# Altium schematic symbol library ushio_rp2040.SchLib: 44 symbols (part 1 of 2)
Pins are listed as number, name and electrical type; pins without a type are passive.

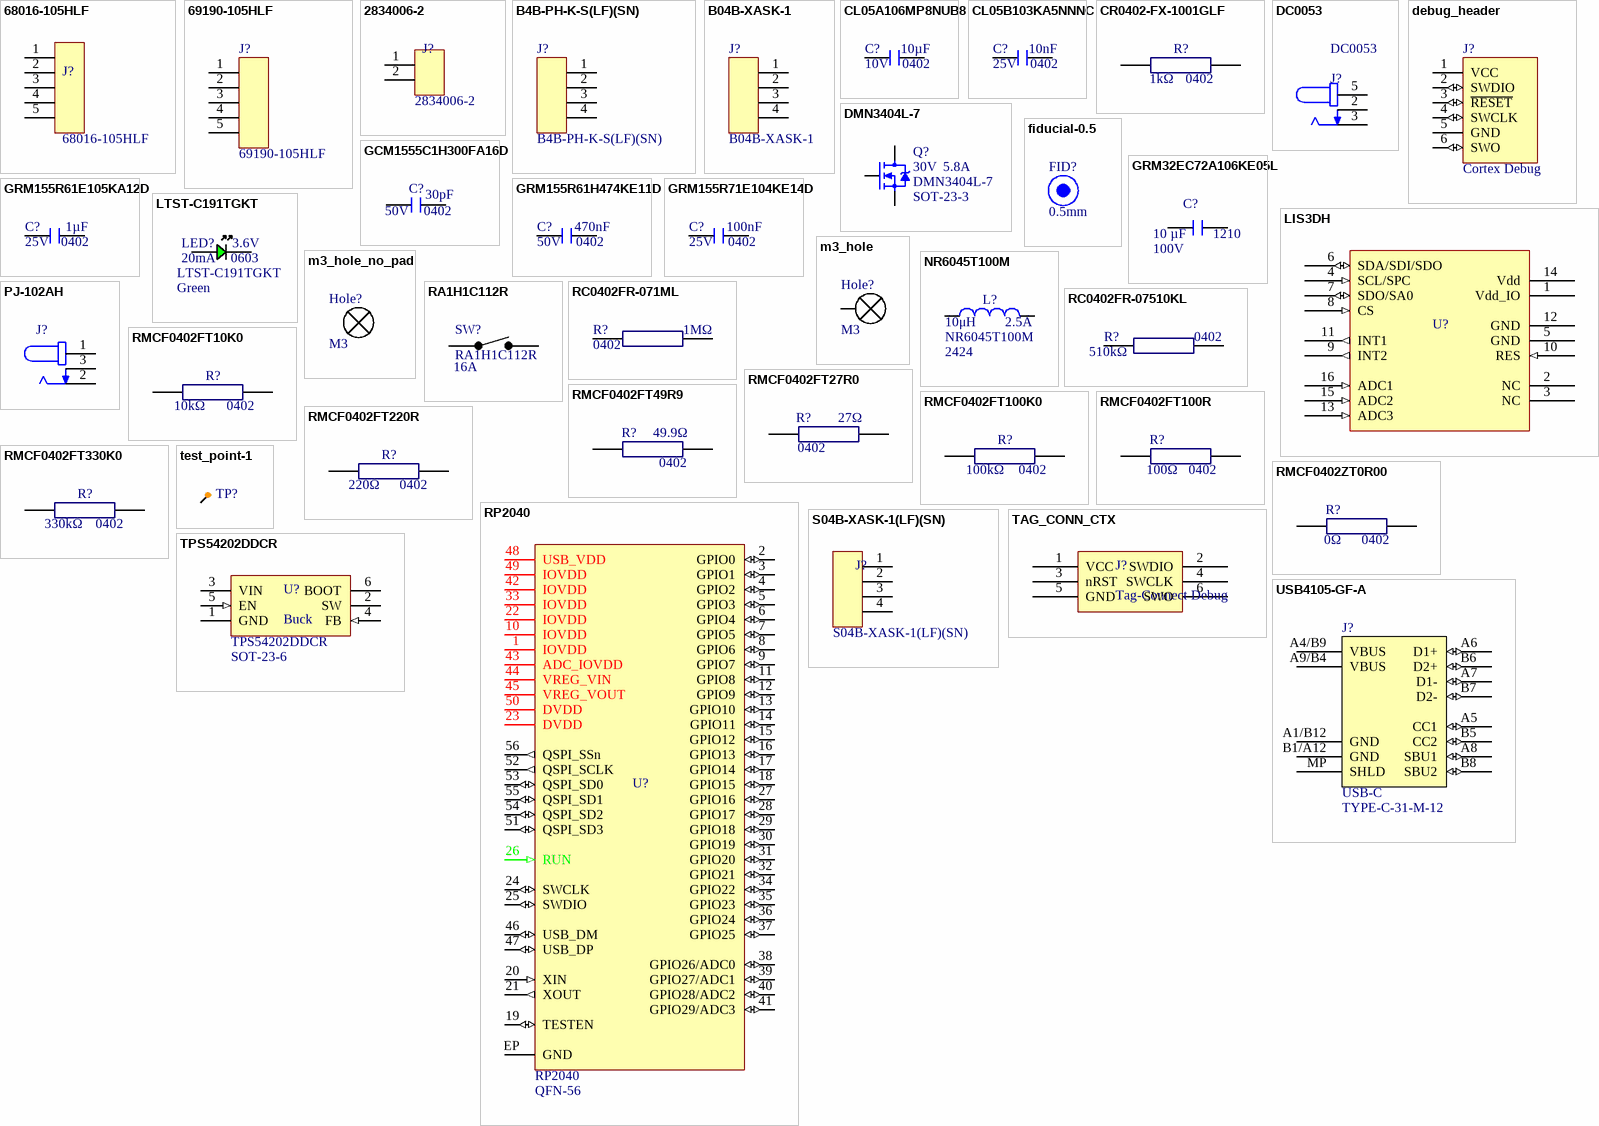
[diagram p0: symbols 68016-105HLF to USB4105-GF-A]

## 68016-105HLF
designator J?  Manufacturer Part Number: 68016-105HLF  (hidden comment: *)
Right Angle 5 position header, unshrouded, 0.100" (2.54mm); Manufacturer: Amphenol ICC / FCI; Description: Connector Header Through Hole, Right Angle 5 position 0.100" (2.54mm); Number of Positions: 5; Current Rating: 3A; Insulation Resistance: 5GR; Voltage Rating: 1.5kV; Contact Post Length: 3.05mm; Supplier: Avnet; Supplier Part Number: 51Y8065; RoHS: No; Category: Connectors; Stock: 1974; Pricing: 1=0.518, 10=0.438, 25=0.418, 50=0.399, 100=0.38 (USD); Mounting Technology: Through Hole; Contact Plating: Gold,GXT; Contact Material: Bronze; Color: Black; Housing Material: Thermoplastic; Housing Color: Black; Min Operating Temperature: -65°C; Max Operating Temperature: 125°C; Number of Rows: 1; Termination: Solder; Contact Gender: Male; Series: BERGSTIK® II, MezzSelect™, Basics+; Packaging: Bulk; Package Quantity: 100; Contact Type: Male Pin; Number of Contacts: 5; Orientation: Right Angle; Max Voltage Rating (AC): 1.5kV; Length: 12.7mm; Pitch: 2.54mm; Contact Mating Length: 0.23inch; Depth: 9.9mm; Radiation Hardening: No; Flammability Rating: UL94 V-0; ComponentLink1URL: http://portal.fciconnect.com/Comergent/fci/drawing/68015.pdf?src-supplier=Avnet; ComponentLink1Description: http://portal.fciconnect.com/Comergent/fci/drawing/68015.pdf?src-supplier=Avnet; ComponentLink2URL: http://components.arrow.com/part/dataview/41914664S9531290N8314?src-supplier=Arrow+Electronics; ComponentLink2Description: http://components.arrow.com/part/dataview/41914664S9531290N8314?src-supplier=Arrow+Electronics; ComponentLink3URL: http://portal.fciconnect.com/Comergent//fci/drawing/68015.pdf?src-supplier=Digi-Key; ComponentLink3Description: http://portal.fciconnect.com/Comergent//fci/drawing/68015.pdf?src-supplier=Digi-Key; ComponentLink4URL: http://www.mouser.com/ds/2/154/bus-12-050-356030.pdf?src-supplier=Mouser; ComponentLink4Description: http://www.mouser.com/ds/2/154/bus-12-050-356030.pdf?src-supplier=Mouser
footprint 68016-105HLF (5-pin 0.1" header, right angle)
pins: 1, 2, 3, 4, 5

## 69190-105HLF
designator J?  Manufacturer Part Number: 69190-105HLF  (hidden comment: *)
5-pin 0.1" unshrouded header pins; Manufacturer: Amphenol ICC / FCI; Manufacturer Series: 69190; Connector Type: BOARD CONNECTOR; Option: General Purpose; Contact Pattern: RECTANGULAR; Contact Style: SQ PIN-SKT; Filter Feature: No; Number Of Connectors: 1; Number of Contacts: 5; Body Breadth: 0.095inch; Body Depth: 0.1inch; Body Length: 0.5inch; Mounting Option 1: LOCKING; Plating Thickness: 30uin; Reference Standard: UL; Reliability: COMMERCIAL; Supplier 1: Digi-Key; RoHS: Yes; Category: Connectors; Stock 1: 3670; Pricing 1: 1=0.47, 10=0.402, 100=0.3123, 500=0.26768, 1000=0.22306, 5000=0.19119, 10000=0.17845 (USD); Mounting Technology: Board; Contact Material: Bronze; Contact Finish - Termination: GOLD (30) OVER NICKEL/NICKEL PALLADIUM GOLD (30) OVER NICKEL; Insulation Color: Black; JESD-609 Code: e4; Contact Gender: Male; Mixed Contacts: No; Mounting Style: STRAIGHT; Number Of PCB Rows: 1; Number of Rows Loaded: 1; PCB Contact Pattern: RECTANGULAR; Termination: Solder; Mating Contact Pitch: 0.1inch; Terminal Length: 0.12inch; Terminal Pitch: 2.54mm; Flammability Rating: UL94 V-0; DIN Conformance: No; IEC Conformance: No; MIL Conformance: No; Reach SVHC Compliant: Yes; RoHS Compliant: Yes; ComponentLink1URL: https://datasheet.ciiva.com/721/69190-721296.pdf?src-supplier=Digi-Key; ComponentLink1Description: https://datasheet.ciiva.com/721/69190-721296.pdf?src-supplier=Digi-Key; Supplier Part Number 1: 609-69190-105HLF-ND
footprint 69190-105HLF (5-pin 0.1" header)
pins: 1, 2, 3, 4, 5

## 2834006-2
designator J?  Manufacturer Part Number: 2834006-2  (hidden comment: *)
2-Pin Barrier Strip Terminal Block; Manufacturer: TE Connectivity; Supplier 1: LCSC; RoHS: Yes; Category: Connectors; Stock 1: 6498; Pricing 1: 1=0.4073, 10=0.3326, 30=0.3007, 100=0.261, 500=0.2212, 800=0.21 (USD); Terminal and Terminal Block Type: BARRIER STRIP TERMINAL BLOCK; Reach SVHC Compliant: Yes; RoHS Compliant: Yes; ComponentLink1URL: https://datasheet.ciiva.com:443/pdfs/VipMasterIC/IC/TYEL/TYEL-S-A0008901127/TYEL-S-A0008894062-1.pdf?src-supplier=IHS+Markit; ComponentLink1Description: https://datasheet.ciiva.com:443/pdfs/VipMasterIC/IC/TYEL/TYEL-S-A0008901127/TYEL-S-A0008894062-1.pdf?src-supplier=IHS+Markit; ComponentLink2URL: http://www.mouser.com/ds/2/418/NG_CD_2834006_A-773085.pdf?src-supplier=Mouser; ComponentLink2Description: http://www.mouser.com/ds/2/418/NG_CD_2834006_A-773085.pdf?src-supplier=Mouser; ComponentLink3URL: http://www.farnell.com/datasheets/2299783.pdf?src-supplier=Farnell; ComponentLink3Description: http://www.farnell.com/datasheets/2299783.pdf?src-supplier=Farnell; ComponentLink4URL: http://www.farnell.com/datasheets/2299783.pdf?src-supplier=Element14; ComponentLink4Description: http://www.farnell.com/datasheets/2299783.pdf?src-supplier=Element14; ComponentLink5URL: http://www.farnell.com/datasheets/2017940.pdf?src-supplier=Element14; ComponentLink5Description: http://www.farnell.com/datasheets/2017940.pdf?src-supplier=Element14; ComponentLink6URL: https://www.te.com/commerce/DocumentDelivery/DDEController?Action=srchrtrv&amp;DocNm=2834006&amp;DocType=Customer+Drawing&amp;DocLang=English&src-supplier=Digi-Key; ComponentLink6Description: https://www.te.com/commerce/DocumentDelivery/DDEController?Action=srchrtrv&amp;DocNm=2834006&amp;DocType=Customer+Drawing&amp;DocLang=English&src-supplier=Digi-Key; Supplier Part Number 1: C86483
footprint 2834006-2 (2-Pin spring clamp terminal)
pins: 1, 2

## B4B-PH-K-S(LF)(SN)
designator J?  Manufacturer Part Number: B4B-PH-K-S(LF)(SN)  (hidden comment: *)
4-Pin JST PH header, 2mm pitch, Through Hole; Current Rating: 2A; Voltage Rating: 100V; Contact Resistance: 20mR; Number of Poles: 4; Insulation Resistance: 1MR; Gender: Male; Supplier 1: Digi-Key; Manufacturer: JST; RoHS: Yes; Category: Connectors; Pricing 1: 1=0.26, 10=0.22, 100=0.1693, 500=0.14326, 1000=0.11722, 5000=0.10419, 10000=0.09443 (USD); Mounting Technology: Through Hole; Pins: 4; Contact Material: Brass,Tin; Contact Plating: Tin,Copper; Color: Natural; Housing Color: White; Housing Material: Polyamide; Material: Polyamide; Min Operating Temperature: -25°C; Max Operating Temperature: 85°C; Number of Rows: 1; Max Current Rating: 2A; Voltage Rating (AC): 100V; Packaging: Bulk; Number of Positions: 4; Termination: Solder; Fastening Type: Detent; Number of Contacts: 4; Max Voltage Rating (AC): 100V; Max Voltage Rating (DC): 100V; Working Voltage: 100V; Orientation: Straight; Series: PH; Contact Type: Male Pin; Length: 9.9mm; Width: 4.5mm; Height: 9.4mm; Pitch: 2mm; Lead Pitch: 2mm; Contact Mating Length: 0.13inch; Depth: 4.5mm; Reach SVHC Compliant: No; Lead Free: Lead Free; ComponentLink1URL: https://datasheet.ciiva.com/11747/0900766b8082f552-11747200.pdf?src-supplier=Rs; ComponentLink1Description: https://datasheet.ciiva.com/11747/0900766b8082f552-11747200.pdf?src-supplier=Rs; ComponentLink2URL: https://datasheet.ciiva.com/16209/eph-16209245.pdf?src-supplier=Future+Electronics; ComponentLink2Description: https://datasheet.ciiva.com/16209/eph-16209245.pdf?src-supplier=Future+Electronics; ComponentLink3URL: https://datasheet.ciiva.com/712/eph-712488.pdf?src-supplier=Digi-Key; ComponentLink3Description: https://datasheet.ciiva.com/712/eph-712488.pdf?src-supplier=Digi-Key; ComponentLink4URL: https://datasheet.ciiva.com/43491/741223-da-01-en-stiftleiste-gerade-4-pol-rm2-0-43491964.pdf?src-supplier=Conrad; ComponentLink4Description: https://datasheet.ciiva.com/43491/741223-da-01-en-stiftleiste-gerade-4-pol-rm2-0-43491964.pdf?src-supplier=Conrad; Supplier Part Number 1: 455-1706-ND
footprint B4B-PH-K-S(LF)(SN)
pins: 1, 2, 3, 4

## B04B-XASK-1
designator J?  Manufacturer Part Number: B04B-XASK-1  (hidden comment: *)
4-pin JST XA header, 2.5mm pitch, through-hole; Supplier 1: Digi-Key; Manufacturer: JST; RoHS: No; Category: Connectors; Stock 1: 159148; Pricing 1: 1=0.32, 10=0.269, 100=0.2093, 500=0.17938, 1000=0.14948, 5000=0.12812, 10000=0.11958 (USD); ComponentLink1URL: https://datasheet.ciiva.com/719/exa1-719638.pdf?src-supplier=Digi-Key; ComponentLink1Description: https://datasheet.ciiva.com/719/exa1-719638.pdf?src-supplier=Digi-Key; Supplier Part Number 1: 455-B04B-XASK-1-ND
footprint B04B-XASK-1 (JST XA 2.5mm header)
pins: 1, 2, 3, 4

## CL05A106MP8NUB8
designator C?  Capacitance: 10µF  Voltage Rating: 10V  Case Code (Imperial): 0402  (hidden comment: *)
10 µF, 10 V, X5R, 0402 Chip capacitor; Manufacturer: Samsung; Manufacturer Part Number: CL05A106MP8NUB8; Tolerance: 20%; Supplier 1: Digi-Key; Supplier Part Number 1: 1276-6830-1-ND; RoHS: Yes; Category: Ceramic Capacitors; Stock 1: 740658; Pricing 1: 1=0.36000, 10=0.25300, 50=0.17720, 100=0.15180, 500=0.11384, 1000=0.09614, 2500=0.09108 (USD); Mount: Surface Mount; Case/Package: 0402; Case Code (Metric): 1005; Min Operating Temperature: -55°C; Max Operating Temperature: 85°C; Packaging: Tape and Reel; Length: 0.039inch; Width: 0.02inch; Thickness: 0.035inch; RoHS Compliant: Yes; ComponentLink1URL: http://www.samsungsem.com/kr/support/product-search/mlcc/CL05A106MP8NUB8.jsp?src-supplier=Digi-Key; ComponentLink1Description: http://www.samsungsem.com/kr/support/product-search/mlcc/CL05A106MP8NUB8.jsp?src-supplier=Digi-Key
footprint 0402_capacitor (0402 chip capacitor)
pins: 1, 2

## CL05B103KA5NNNC
designator C?  Capacitance: 10nF  Voltage Rating: 25V  Case Code (Imperial): 0402  (hidden comment: *)
10 nF, 25 V, X7R, 0402 Chip capacitor; Manufacturer: Samsung; Manufacturer Part Number: CL05B103KA5NNNC; Tolerance: 10%; Supplier 1: Digi-Key; Supplier Part Number 1: 1276-1057-2-ND; RoHS: Yes; Category: Ceramic Capacitors; Stock 1: 2318300; Pricing 1: 10000=0.00328, 20000=0.00312, 30000=0.00297, 50000=0.00266, 100000=0.00215, 250000=0.00195 (USD); Mount: Surface Mount; Case/Package: 0402; Case Code (Metric): 1005; Contact Plating: Tin; Min Operating Temperature: -55°C; Max Operating Temperature: 125°C; Packaging: Tape and Reel; Package Quantity: 1; Dielectric: X7R; Series: CL; Construction: Flat; Length: 1mm; Width: 0.02inch; Height: 0.5mm; Thickness: 0.022inch; Depth: 0.5mm; Radiation Hardening: No; RoHS Compliant: Yes; ComponentLink1URL: https://datasheet.ciiva.com/15195/getdatasheetpartid-358612-15195635.pdf?src-supplier=Verical; ComponentLink1Description: https://datasheet.ciiva.com/15195/getdatasheetpartid-358612-15195635.pdf?src-supplier=Verical; ComponentLink2URL: https://datasheet.ciiva.com/16740/cl05b104kq5nnnc-16740683.pdf?src-supplier=Future+Electronics; ComponentLink2Description: https://datasheet.ciiva.com/16740/cl05b104kq5nnnc-16740683.pdf?src-supplier=Future+Electronics
footprint 0402_capacitor (0402 chip capacitor)
pins: 1, 2

## CR0402-FX-1001GLF
designator R?  Size Code: 0402  Resistance: 1kΩ  (hidden comment: *)
1 kΩ, 0402 Chip resistor; Manufacturer: Bourns; Manufacturer Part Number: CR0402-FX-1001GLF; Tolerance: 1%; Rated Power Dissipation (P): 62.5mW; Rated Temperature: 70°C; Temperature Coefficient: 100ppm/°C; Working Voltage: 50V; Package Height: 0.35mm; Package Length: 1mm; Package Width: 0.5mm; Supplier 1: Digi-Key; RoHS: Yes; Category: Chip SMD Resistors; Stock 1: 398310; Pricing 1: 10000=0.00114 (USD); Mount: Surface Mount; Number of Pins: 2; Package Shape: Rectangular; Terminal Finish: Nickel; Min Operating Temperature: -55°C; Max Operating Temperature: 125°C; JESD-609 Code: e3; Resistor Type: FIXED RESISTOR; Construction: Chip; Package Style: SMTMeter; Packaging: Tape and Reel; Technology: RUTHENIUM OXIDE; Termination: Wraparound; REACH SVHC: Yes; RoHS Compliant: Yes; ComponentLink1URL: https://datasheet.ciiva.com:443/pdfs/VipMasterIC/IC/BOUR/BOUR-S-A0008953887/BOUR-S-A0008953887-1.pdf?src-supplier=IHS+Markit; ComponentLink1Description: https://datasheet.ciiva.com:443/pdfs/VipMasterIC/IC/BOUR/BOUR-S-A0008953887/BOUR-S-A0008953887-1.pdf?src-supplier=IHS+Markit; ComponentLink2URL: https://datasheet.ciiva.com/5734/1845296-5734926.pdf?src-supplier=Farnell; ComponentLink2Description: https://datasheet.ciiva.com/5734/1845296-5734926.pdf?src-supplier=Farnell; ComponentLink3URL: https://datasheet.ciiva.com/11821/0900766b80fcdb41-11821108.pdf?src-supplier=RSComponents; ComponentLink3Description: https://datasheet.ciiva.com/11821/0900766b80fcdb41-11821108.pdf?src-supplier=RSComponents; ComponentLink4URL: https://datasheet.ciiva.com/9123/cr0402-9123631.pdf?src-supplier=Avnet; ComponentLink4Description: https://datasheet.ciiva.com/9123/cr0402-9123631.pdf?src-supplier=Avnet; ComponentLink5URL: https://datasheet.ciiva.com/30154/cr0402-30154590.pdf?src-supplier=Onlinecomponents.com; ComponentLink5Description: https://datasheet.ciiva.com/30154/cr0402-30154590.pdf?src-supplier=Onlinecomponents.com; Supplier Part Number 1: CR0402-FX-1001GLFTR-ND
footprint 0402_resistor (Chip Resistor, 2-Leads, Body 1.00x0.50mm, IPC Medium Density)
pins: 1, 2

## DC0053
designator J?  Manufacturer Part Number: DC0053  (hidden comment: *)
5.5 mm x 2 mm Barrel jack; Manufacturer: SHOU HAN; Supplier 1: LCSC; RoHS: No; Category: Uncategorized; Stock 1: 2415; Pricing 1: 5=0.0927, 50=0.0762, 150=0.0679, 500=0.0565, 2500=0.0515, 5000=0.0491 (USD); Supplier Part Number 1: C668601
footprint DC0053 (5.5mm x 2 mm Barrel jack)
pins: 2 SWITCH, 3 SLEEVE, 5 TIP

## debug_header
designator J?, comment Cortex Debug  (no BOM)
Tag-connect 6-pin pogo header; pickable: no
footprint debug_header
pins: 1 VCC (power), 2 SWDIO (io), 3 ~{RESET} (io), 4 SWCLK (io), 5 GND (power), 6 SWO (io)

## DMN3404L-7
designator Q?  Package: SOT-23-3  DS Breakdown Voltage-Min: 30V  Drain Current-Max (ID): 5.8A  Manufacturer Part Number: DMN3404L-7  (hidden comment: *)
N-FET, 30 V, 5.8 A, SOT-23-3; Manufacturer: Diodes; Package Body Material: Plastic; Transistor Element Material: SILICON; Polarity/Channel Type: N-CHANNEL; Additional Feature: HIGH RELIABILITY; Drain-source On Resistance-Max: 28mR; FET Technology: METAL-OXIDE SEMICONDUCTOR; Number of Elements: 1; Operating Mode: ENHANCEMENT MODE; Power Dissipation-Max (Abs): 1.4W; Pulsed Drain Current-Max (IDM): 30A; Time @ Peak Reflow Temperature-Max (s): 40s; Transistor Application: SWITCHING; Qualification Status: Not Qualified; Supplier 1: Digi-Key; RoHS: Yes; Category: MOSFETs; Stock 1: 150000; Pricing 1: 3000=0.07535, 6000=0.06781, 15000=0.06028, 30000=0.05651, 75000=0.05011, 150000=0.04822 (USD); Pins: 3; Package Shape: Rectangular; Terminal Finish: Tin; Max Operating Temperature: 150°C; JESD-609 Code: e3; Drain Current-Max (Abs) (ID): 5.8A; JESD-30 Code: R-PDSO-G3; Moisture Sensitivity Level: 1; Package Style: SMALL OUTLINEMeter; Peak Reflow Temperature (Cel): 260°C; Surface Mount: Yes; Terminal Form: Gull Wing; Terminal Position: DUAL; Reach SVHC Compliant: Yes; RoHS Compliant: Yes; ComponentLink1URL: https://datasheet.ciiva.com:443/pdfs/VipMasterIC/IC/DIOD/DIODS20277/DIODS20277-1.pdf?src-supplier=IHS+Markit; ComponentLink1Description: https://datasheet.ciiva.com:443/pdfs/VipMasterIC/IC/DIOD/DIODS20277/DIODS20277-1.pdf?src-supplier=IHS+Markit; ComponentLink2URL: https://datasheet.ciiva.com/4444/ds31787-65102-4444489.pdf?src-supplier=Mouser; ComponentLink2Description: https://datasheet.ciiva.com/4444/ds31787-65102-4444489.pdf?src-supplier=Mouser; ComponentLink3URL: https://datasheet.ciiva.com/8115/ds31787-8115384.pdf?src-supplier=Avnet; ComponentLink3Description: https://datasheet.ciiva.com/8115/ds31787-8115384.pdf?src-supplier=Avnet; ComponentLink4URL: https://datasheet.ciiva.com/16508/ds31787-16508477.pdf?src-supplier=Future+Electronics; ComponentLink4Description: https://datasheet.ciiva.com/16508/ds31787-16508477.pdf?src-supplier=Future+Electronics; ComponentLink5URL: https://datasheet.ciiva.com/8023/ds31787-8023981.pdf?src-supplier=Element14; ComponentLink5Description: https://datasheet.ciiva.com/8023/ds31787-8023981.pdf?src-supplier=Element14; ComponentLink6URL: https://datasheet.ciiva.com/934/ds31787-934594.pdf?src-supplier=Digi-Key; ComponentLink6Description: https://datasheet.ciiva.com/934/ds31787-934594.pdf?src-supplier=Digi-Key; ComponentLink7URL: https://datasheet.ciiva.com/934/ds31787-934595.pdf?src-supplier=Digi-Key; ComponentLink7Description: https://datasheet.ciiva.com/934/ds31787-934595.pdf?src-supplier=Digi-Key; ComponentLink8URL: https://datasheet.ciiva.com/934/ds31787-934593.pdf?src-supplier=Digi-Key; ComponentLink8Description: https://datasheet.ciiva.com/934/ds31787-934593.pdf?src-supplier=Digi-Key; Supplier Part Number 1: DMN3404LDITR-ND
footprint SOT-23-3
pins: 1 G, 2 S, 3 D

## fiducial-0.5
designator FID?, comment Package: 0.5mm  (hidden comment: FID?)  (no BOM)
0.5mm round fiducial
footprint fiducial-0.5

## GCM1555C1H300FA16D
designator C?  value 30pF  Rated DC Voltage (URdc): 50V  Case/Package: 0402  (hidden comment: *)
30 pF, 50 V, C0G, 0402 Chip capacitor; Manufacturer: Murata; Manufacturer Part Number: GCM1555C1H300FA16D; Dielectric Material: Ceramic; Multilayer: Yes; Tolerance  (fill in as +-): 1%; Reference Standard: AEC-Q200; Supplier 1: LCSC; RoHS: Yes; Category: Ceramic Capacitors; Stock 1: 20680; Pricing 1: 20=0.0242, 200=0.0198, 600=0.0174, 2000=0.0159, 10000=0.0143, 20000=0.0137 (USD); Mounting Technology: Surface Mount; Pins: 2; Package Shape: Rectangular; Min Operating Temperature: -55°C; Max Operating Temperature: 125°C; Capacitor Type: Ceramic; Packaging: Tape and Reel; Tolerance (fill in as +-): 1%; Temperature Characteristics Code: C0G; Termination: Wraparound; Reach SVHC Compliant: Yes; RoHS Compliant: Yes; ComponentLink1URL: https://psearch.en.murata.com:443/capacitor/product/GCM1555C1H300FA16%23.pdf?src-supplier=IHS+Markit; ComponentLink1Description: https://psearch.en.murata.com:443/capacitor/product/GCM1555C1H300FA16%23.pdf?src-supplier=IHS+Markit; Supplier Part Number 1: C2987943
footprint 0402_capacitor (0402 chip capacitor)
pins: 1, 2

## GRM32EC72A106KE05L
designator C?  Voltage Rating: 100V  Case/Package: 1210  Capacitance: 10 µF  (hidden comment: *)
10 µF, 100 V, 1210 Ceramic capacitor; Manufacturer: Murata; Manufacturer Part Number: GRM32EC72A106KE05L; Tolerance: 10%; Supplier 1: Digi-Key; Stock 1: 4827; Pricing 1: 1=1.38, 10=1.087, 100=0.8151, 500=0.61582 (USD); Mount: Surface Mount; Case Code (Imperial): 1210; Case Code (Metric): 3225; Min Operating Temperature: -55°C; Max Operating Temperature: 125°C; Packaging: Tape and Reel; ComponentLink1URL: http://search.murata.co.jp/Ceramy/image/img/A01X/G101/ENG/GRM32EC72A106KE05-01.pdf?src-supplier=Digi-Key; ComponentLink1Description: http://search.murata.co.jp/Ceramy/image/img/A01X/G101/ENG/GRM32EC72A106KE05-01.pdf?src-supplier=Digi-Key; Supplier Part Number 1: 490-16266-1-ND
footprint 1210_capacitor (1210 chip capacitor)
pins: 1, 2

## GRM155R61E105KA12D
designator C?  Size Code: 0402  Capacitance: 1µF  Voltage: 25V  (hidden comment: GRM155R61E105KA12D)
1 µF, 25 V, X5R, 0402 Chip capacitor; Manufacturer: Murata; house_part_number: C-1uF-0402-002; Dielectric Material: Ceramic; Multilayer: Yes; Negative Tolerance: 10%; Supplier 1: Digi-Key; Supplier Part Number 1: 490-10017-1-ND; RoHS: Yes; Category: Ceramic Capacitors; Stock 1: 145965; Pricing 1: 1=0.11000, 10=0.08300, 50=0.04560, 100=0.03720, 500=0.02656, 1000=0.02087, 2500=0.01898, 5000=0.01746 (USD); Mount: Surface Mount; Number of Pins: 2; Package Shape: Rectangular; Terminal Finish: Nickel; Min Operating Temperature: -55°C; Max Operating Temperature: 85°C; JESD-609 Code: e3; Capacitor Type: Ceramic; Package Style: SMTMeter; Packaging: Tape and Reel; Positive Tolerance: 10%; Temperature Characteristics Code: X5R; Termination: Wraparound; Length: 1mm; Width: 0.5mm; Height: 0.5mm; REACH SVHC: Yes; RoHS Compliant: Yes; ComponentLink1URL: https://datasheet.ciiva.com:443/pdfs/VipMasterIC/IC/MURE/MURE-S-A0004362469/MURE-S-A0004364524-1.pdf?src-supplier=IHS+Markit; ComponentLink1Description: https://datasheet.ciiva.com:443/pdfs/VipMasterIC/IC/MURE/MURE-S-A0004362469/MURE-S-A0004364524-1.pdf?src-supplier=IHS+Markit; ComponentLink2URL: https://datasheet.ciiva.com/7719/1666664-7719006.pdf?src-supplier=Element14; ComponentLink2Description: https://datasheet.ciiva.com/7719/1666664-7719006.pdf?src-supplier=Element14; ComponentLink3URL: https://datasheet.ciiva.com/22732/1666664-22732122.pdf?src-supplier=Element14; ComponentLink3Description: https://datasheet.ciiva.com/22732/1666664-22732122.pdf?src-supplier=Element14; Manufacturer Part Number: GRM155R61E105KA12D
footprint 0402_capacitor (0402 chip capacitor)
pins: 1, 2

## GRM155R61H474KE11D
designator C?  Package: 0402  Voltage Rating (DC): 50V  Capacitance: 470nF  (hidden comment: GRM155R61H474KE11D)
470 nF, 50 V, X5R, 0402 Chip capacitor; Manufacturer: Murata; house_part_number: C-470nF-0402-002; Tolerance: 10%; Supplier 1: Digi-Key; Supplier Part Number 1: 490-16354-1-ND; RoHS: Yes; Category: Ceramic Capacitors; Pricing 1: 1=0.20000, 10=0.14600, 50=0.08260, 100=0.06840, 500=0.04798, 1000=0.03972, 2500=0.03696, 5000=0.03382 (USD); Dielectric: X5R; Length: 1mm; Width: 500um; Thickness: 500um; RoHS Compliant: Yes; ComponentLink1URL: http://search.murata.co.jp/Ceramy/image/img/A01X/G101/ENG/GRM155R61H474KE11-01.pdf?src-supplier=Digi-Key; ComponentLink1Description: http://search.murata.co.jp/Ceramy/image/img/A01X/G101/ENG/GRM155R61H474KE11-01.pdf?src-supplier=Digi-Key; ComponentLink2URL: https://search.murata.co.jp/Ceramy/image/img/A01X/G101/ENG/GRM155R61H474KE11-01.pdf?src-supplier=Digi-Key; ComponentLink2Description: https://search.murata.co.jp/Ceramy/image/img/A01X/G101/ENG/GRM155R61H474KE11-01.pdf?src-supplier=Digi-Key; Manufacturer Part Number: GRM155R61H474KE11D
footprint 0402_capacitor (0402 chip capacitor)
pins: 1, 2

## GRM155R71E104KE14D
designator C?  Case Code (Imperial): 0402  Voltage: 25V  Capacitance: 100nF  (hidden comment: GRM155R71E104KE14D)
100 nF, 25 V, X7R, 0402 Chip capacitor; Manufacturer: Murata; house_part_number: C-100nF-0402-002; Dielectric Material: Ceramic; Tolerance: 10%; Supplier 1: Digi-Key; Supplier Part Number 1: 490-10698-1-ND; RoHS: Yes; Category: Ceramic Capacitors; Pricing 1: 1=0.10000, 10=0.02700, 50=0.01460, 100=0.01190, 500=0.00848, 1000=0.00666, 2500=0.00605, 5000=0.00557 (USD); Mount: Surface Mount; Case/Package: 0402; Case Code (Metric): 1005; Weight: 0.000212oz; Min Operating Temperature: -55°C; Max Operating Temperature: 125°C; Packaging: Tape and Reel; Voltage Rating: 25V; Dielectric: X7R; Termination: SMD/SMT; Resistor Type: Ceramic; Voltage Rating (DC): 25V; Package Quantity: 10000; Length: 1mm; Width: 0.02inch; Height: 0.5mm; Thickness: 0.022inch; Depth: 0.5mm; REACH SVHC: Unknown; Lead Free: Lead Free; RoHS Compliant: Yes; ComponentLink1URL: http://www.farnell.com/datasheets/1872206.pdf?src-supplier=Farnell; ComponentLink1Description: http://www.farnell.com/datasheets/1872206.pdf?src-supplier=Farnell; ComponentLink2URL: http://components.arrow.com/part/dataview/0323_06361249?src-supplier=Arrow+Europe; ComponentLink2Description: http://components.arrow.com/part/dataview/0323_06361249?src-supplier=Arrow+Europe; ComponentLink3URL: http://uk.rs-online.com/webdocs/144c/0900766b8144c113.pdf?src-supplier=RSComponents; ComponentLink3Description: http://uk.rs-online.com/webdocs/144c/0900766b8144c113.pdf?src-supplier=RSComponents; ComponentLink4URL: http://www.farnell.com/datasheets/2048008.pdf?src-supplier=Farnell; ComponentLink4Description: http://www.farnell.com/datasheets/2048008.pdf?src-supplier=Farnell; ComponentLink5URL: http://www.mouser.com/ds/2/281/c02e-2905.pdf?src-supplier=Mouser; ComponentLink5Description: http://www.mouser.com/ds/2/281/c02e-2905.pdf?src-supplier=Mouser; ComponentLink6URL: http://www.farnell.com/datasheets/2048008.pdf?src-supplier=Newark; ComponentLink6Description: http://www.farnell.com/datasheets/2048008.pdf?src-supplier=Newark; ComponentLink7URL: https://search.murata.co.jp/Ceramy/image/img/A01X/G101/ENG/GRM155R71E104KE14-01.pdf?src-supplier=Digi-Key; ComponentLink7Description: https://search.murata.co.jp/Ceramy/image/img/A01X/G101/ENG/GRM155R71E104KE14-01.pdf?src-supplier=Digi-Key; ComponentLink8URL: http://www.farnell.com/datasheets/2048008.pdf?src-supplier=Element14; ComponentLink8Description: http://www.farnell.com/datasheets/2048008.pdf?src-supplier=Element14; ComponentLink9URL: http://psearch.en.murata.com/capacitor/product/GRM155R71E104KE14%23.pdf?src-supplier=Avnet; ComponentLink9Description: http://psearch.en.murata.com/capacitor/product/GRM155R71E104KE14%23.pdf?src-supplier=Avnet; Manufacturer Part Number: GRM155R71E104KE14D
footprint 0402_capacitor (0402 chip capacitor)
pins: 1, 2

## LIS3DH
designator U?, comment Accelerometer, LGA-16  (value not drawn)
ACCEL 2-16G I2C/SPI 16LGA; Manufacturer: STMicroelectronics; Manufacturer Part Number: LIS3DHTR; Interface: I2C,SPI; Axis: X, Y, Z; Bandwidth: 5kHz; Output Type: Digital; Sensor Type: 3 Axis; Max Supply Voltage: 3.6V; Min Supply Voltage: 1.71V; Resolution: 16b; Operating Supply Voltage: 2.5V; Operating Supply Current: 11uA; Supplier: Mouser; Supplier Part Number: 511-LIS3DHTR; RoHS: Yes; Category: Accelerometers; Stock: 29398; Pricing: 1=2.06, 10=1.41, 50=1.41, 100=1.3, 500=1.19, 1000=1.11, 4000=0.984, 8000=0.936, 10000=0.936 (USD); Case/Package: LGA; Pins: 16; Min Operating Temperature: -40°C; Max Operating Temperature: 85°C; Series: -; Packaging: Tape and Reel; Package Quantity: 4000; Max Supply Voltage (DC): 3.6V; Min Supply Voltage (DC): 1.71V; Length: 3mm; Width: 3mm; Height: 1mm; Depth: 3mm; Radiation Hardening: No; Lead Free: Lead Free; RoHS Compliant: Yes; Reach SVHC Compliant: No; ComponentLink1URL: https://datasheet.ciiva.com/7621/1718591-7621744.pdf?src-supplier=Element14; ComponentLink1Description: https://datasheet.ciiva.com/7621/1718591-7621744.pdf?src-supplier=Element14; ComponentLink2URL: https://datasheet.ciiva.com/5296/cd00274221-117431-5296513.pdf?src-supplier=Mouser; ComponentLink2Description: https://datasheet.ciiva.com/5296/cd00274221-117431-5296513.pdf?src-supplier=Mouser; ComponentLink3URL: https://datasheet.ciiva.com/2810/cd00274221-2810009.pdf?src-supplier=Digi-Key; ComponentLink3Description: https://datasheet.ciiva.com/2810/cd00274221-2810009.pdf?src-supplier=Digi-Key; ComponentLink4URL: https://datasheet.ciiva.com/2810/cd00274221-2810008.pdf?src-supplier=Digi-Key; ComponentLink4Description: https://datasheet.ciiva.com/2810/cd00274221-2810008.pdf?src-supplier=Digi-Key; ComponentLink5URL: https://datasheet.ciiva.com/2810/cd00274221-2810010.pdf?src-supplier=Digi-Key; ComponentLink5Description: https://datasheet.ciiva.com/2810/cd00274221-2810010.pdf?src-supplier=Digi-Key; ComponentLink6URL: https://datasheet.ciiva.com/48495/cd00274221-48495849.pdf?src-supplier=Avnet; ComponentLink6Description: https://datasheet.ciiva.com/48495/cd00274221-48495849.pdf?src-supplier=Avnet; ComponentLink7URL: https://datasheet.ciiva.com/3271/cd00274221-3271807.pdf?src-supplier=Avnet; ComponentLink7Description: https://datasheet.ciiva.com/3271/cd00274221-3271807.pdf?src-supplier=Avnet; ComponentLink8URL: https://datasheet.ciiva.com/16216/cd00274221-16216362.pdf?src-supplier=Future+Electronics; ComponentLink8Description: https://datasheet.ciiva.com/16216/cd00274221-16216362.pdf?src-supplier=Future+Electronics
footprint PQFN50P300X300X100-16N (PQFN, 16-Leads, Body 3.00x3.00mm, Pitch 0.50mm, IPC Medium Density)
pins: 1 Vdd_IO (power) "Power supply for I/O pins", 2 NC "Not connected", 3 NC "Not connected", 4 SCL/SPC (in) "Clock", 5 GND (power) "0V supply", 6 SDA/SDI/SDO (io) "I2C Serial data/SPI data in/3-wire data out", 7 SDO/SA0 (io) "SPI serial data output (SDO)/I2C address LSB", 8 CS (in) "Low: SPI enabled/ High: I2C enabled", 9 INT2 (out) "Inertial interrupt 2", 10 RES (in) "Connect to GND", 11 INT1 (out) "Inertial interrupt 1", 12 GND (power) "0V supply", 13 ADC3 (in) "Analog-to-digital converter input 3", 14 Vdd (power) "Power supply", 15 ADC2 (in) "Analog-to-digital converter input 2", 16 ADC1 (in) "Analog-to-digital converter input 1"

## LTST-C191TGKT
designator LED?  Forward Current-Max: 20mA  Forward Voltage-Max: 3.6V  Color: Green  Package: 0603  (hidden comment: LTST-C191TGKT)
Green LED, 0603; Manufacturer: Vishay Lite-On; Shape: Rectangular; Lens Style: WATER CLEAR; Luminous Intensity-Min: 130cd; Luminous Intensity-Nom: 260.5mcd; Number of Functions: 1; Optoelectronic Device Type: SINGLE COLOR LED; Reverse Voltage-Max: 5V; Viewing Angle: 130°; Overall Height: 0.55mm; Supplier 1: Digi-Key; RoHS: Yes; Category: LEDs; Stock 1: 478546; Pricing 1: 1=0.53000, 10=0.32300, 100=0.18580, 1000=0.14544, 2000=0.13332 (USD); Mount: Surface Mount; Number of Pins: 2; Color@wavelength: Green; Terminal Finish: Tin; Min Operating Temperature: -20°C; Max Operating Temperature: 80°C; JESD-609 Code: e3; Packaging: Tape and Reel; Size: 1.1mm; Terminal Pitch: 1.5mm; Reach SVHC Compliant: Yes; RoHS Compliant: Yes; ComponentLink1URL: https://datasheet.ciiva.com:443/pdfs/VipMasterIC/IC/LITE/LITE-S-A0003155974/LITE-S-A0003155974-1.pdf?src-supplier=IHS+Markit; ComponentLink1Description: https://datasheet.ciiva.com:443/pdfs/VipMasterIC/IC/LITE/LITE-S-A0003155974/LITE-S-A0003155974-1.pdf?src-supplier=IHS+Markit; ComponentLink2URL: https://datasheet.ciiva.com/16444/ltst-c191tgkt-16444757.pdf?src-supplier=Future+Electronics; ComponentLink2Description: https://datasheet.ciiva.com/16444/ltst-c191tgkt-16444757.pdf?src-supplier=Future+Electronics; ComponentLink3URL: https://datasheet.ciiva.com/11773/0900766b80dc02b5-11773683.pdf?src-supplier=RSComponents; ComponentLink3Description: https://datasheet.ciiva.com/11773/0900766b80dc02b5-11773683.pdf?src-supplier=RSComponents; ComponentLink4URL: https://datasheet.ciiva.com/12403/lite-on-ltst-c191tgkt-190137-12403796.pdf?src-supplier=Mouser; ComponentLink4Description: https://datasheet.ciiva.com/12403/lite-on-ltst-c191tgkt-190137-12403796.pdf?src-supplier=Mouser; ComponentLink5URL: https://datasheet.ciiva.com/6352/s-110-ltst-c191tgkt-6352682.pdf?src-supplier=Digi-Key; ComponentLink5Description: https://datasheet.ciiva.com/6352/s-110-ltst-c191tgkt-6352682.pdf?src-supplier=Digi-Key; ComponentLink6URL: https://datasheet.ciiva.com/6352/s-110-ltst-c191tgkt-6352684.pdf?src-supplier=Digi-Key; ComponentLink6Description: https://datasheet.ciiva.com/6352/s-110-ltst-c191tgkt-6352684.pdf?src-supplier=Digi-Key; ComponentLink7URL: https://datasheet.ciiva.com/6352/s-110-ltst-c191tgkt-6352683.pdf?src-supplier=Digi-Key; ComponentLink7Description: https://datasheet.ciiva.com/6352/s-110-ltst-c191tgkt-6352683.pdf?src-supplier=Digi-Key; Supplier Part Number 1: 160-1888-1-ND; House Part Number: LTST-C191TGKT; Manufacturer Part Number: LTST-C191TGKT
footprint 0603_diode
pins: 1 A, 2 K

## m3_hole
designator Hole?, comment M3  (no BOM)
M3 clearance hole; pickable: no
footprint m3_hole (M3 hole, with via stitching)
pins: 1

## m3_hole_no_pad
designator Hole?, comment M3  (no BOM)
M3 clearance hole; pickable: no
footprint m3_hole_no_pad (M3 hole, with via stitching)

## NR6045T100M
designator L?  Inductance-Nom (L): 10μH  Case/Size Code: 2424  Max Current Rating: 2.5A  Manufacturer Part Number: NR6045T100M  (hidden comment: *)
10 μH, 2.5 A, 20%, 2424 Inductor; Manufacturer: Taiyo Yuden; Core Material: Ferrite; Inductor Application: DC-DC CONVERTER; Inductor Type: GENERAL PURPOSE INDUCTOR; Channels: 1; Self Resonant Frequency: 12MHz; Shape/Size Description: RECTANGULAR PACKAGE; Shielding: Shielded; Test Frequency: 100kHz; Package Height: 4.5mm; Package Length: 6mm; DC Resistance (DCR): 47mΩ; Supplier 1: LCSC; RoHS: Yes; Category: Fixed Inductors; Stock 1: 325; Pricing 1: 5=0.1541, 50=0.1181, 150=0.1027, 1500=0.0694, 3000=0.0609, 4500=0.0557 (USD); Pins: 2; Terminal Finish: Nickel; Min Operating Temperature: -25°C; Max Operating Temperature: 120°C; Tolerance: 20%; JESD-609 Code: e3; Construction: Chip; Package Style: SMTMeter; Packaging: Tape and Reel; Surface Mount: Yes; Terminal Placement: Dual Ended; Termination: One Surface; Package Width: 6mm; Reach SVHC Compliant: Yes; RoHS Compliant: Yes; ComponentLink1URL: https://datasheet.ciiva.com:443/pdfs/VipMasterIC/IC/TAIY/TAIY-S-A0009101225/TAIY-S-A0009101421-1.pdf?src-supplier=IHS+Markit; ComponentLink1Description: https://datasheet.ciiva.com:443/pdfs/VipMasterIC/IC/TAIY/TAIY-S-A0009101225/TAIY-S-A0009101421-1.pdf?src-supplier=IHS+Markit; ComponentLink2URL: https://datasheet.ciiva.com/7197/nr6045t100m-ss-7197633.pdf?src-supplier=Newark; ComponentLink2Description: https://datasheet.ciiva.com/7197/nr6045t100m-ss-7197633.pdf?src-supplier=Newark; ComponentLink3URL: https://datasheet.ciiva.com/15988/453nr6045t100m-15988119.pdf?src-supplier=Onlinecomponents.com; ComponentLink3Description: https://datasheet.ciiva.com/15988/453nr6045t100m-15988119.pdf?src-supplier=Onlinecomponents.com; ComponentLink4URL: https://datasheet.ciiva.com/1065/wound04-e-1065629.pdf?src-supplier=Digi-Key; ComponentLink4Description: https://datasheet.ciiva.com/1065/wound04-e-1065629.pdf?src-supplier=Digi-Key; ComponentLink5URL: https://datasheet.ciiva.com/1065/wound04-e-1065628.pdf?src-supplier=Digi-Key; ComponentLink5Description: https://datasheet.ciiva.com/1065/wound04-e-1065628.pdf?src-supplier=Digi-Key; ComponentLink6URL: https://datasheet.ciiva.com/1065/wound04-e-1065630.pdf?src-supplier=Digi-Key; ComponentLink6Description: https://datasheet.ciiva.com/1065/wound04-e-1065630.pdf?src-supplier=Digi-Key; ComponentLink7URL: https://datasheet.ciiva.com/4955/wound04-e-4955382.pdf?src-supplier=Mouser; ComponentLink7Description: https://datasheet.ciiva.com/4955/wound04-e-4955382.pdf?src-supplier=Mouser; Supplier Part Number 1: C174289
footprint 2424_inductor (Precision Wire Wound Inductor, 2-Leads, Body 6.00x6.00mm, IPC Medium Density)
pins: 1, 2

## PJ-102AH
designator J?  (value not drawn)
2x5.5 mm Barrel jack; Manufacturer: CUI; Voltage Rating: 24V; Gender: Male; Shielding: Unshielded; Current Rating: 5A; Insulation Resistance: 50MR; Number of Conductors: 2; Supplier 1: Digi-Key; Manufacturer Part Number: PJ-102AH; Stock 1: 95223; Pricing 1: 1=0.76, 10=0.708, 25=0.6372, 50=0.5664, 100=0.5428, 250=0.4956, 500=0.472, 1000=0.3894, 2500=0.354 (USD); Mount: Through Hole; Color: Black; Contact Material: Copper; Contact Plating: Nickel; Housing Color: Black; Housing Material: Thermoplastic; Min Operating Temperature: -25°C; Max Operating Temperature: 85°C; Package Quantity: 280; Termination: Through Hole; Connector Type: Jack; Contact Gender: Male; Orientation: Horizontal; Packaging: Bulk; Diameter: 2.1mm; Lead Free: Lead Free; Flammability Rating: UL94 V-0; Supplier Part Number 1: CP-102AH-ND
footprint PJ-102AH
pins: 1, 2, 3

## RA1H1C112R
designator SW?  Manufacturer Part Number: RA1H1C112R  Contact Current(AC)-Max: 16A  (hidden comment: *)
Rocker Switch, SPST, through-hole, right angle; Manufacturer: E-Switch; Actuator Material: Polyamide; Actuator Color: Black; End Contact Material: Silver; Contact AC Max Rating R Load: 16A@125VAC; Contact Function: Off-On; Contact Resistance: 0.035mR; Contact Voltage(AC)-Max: 125V; Dielectric Withstand Volts: 1000VACV; Electrical Life: 50000Cycles; Insulation Resistance: 100MR; Switch Action: MAINTAINED; Actuator Length: 0.236inch; Body Breadth: 12.9032inch; Body Height: 16.6116mm; Body Length or Diameter: 18.4912mm; Supplier 1: Digi-Key; RoHS: Yes; Category: Rocker Switches; Stock 1: 21149; Pricing 1: 1=1.06, 10=0.941, 25=0.8932, 50=0.8494, 100=0.8097, 250=0.774, 500=0.69462, 1000=0.65493 (USD); Contact Material: Silver; Body Color: Black; Insulation Material: Polyamide; Terminal Material: Copper; Min Operating Temperature: -20°C; Actuator Type: Rocker; Switch Function: SPST; Switch Type: Rocker; Termination: Solder; Terminal Length: 0.185inch; Reach SVHC Compliant: Yes; RoHS Compliant: Yes; ComponentLink1URL: https://datasheet.ciiva.com:443/pdfs/VipMasterIC/IC/ESCH/ESCH-S-A0005338377/ESCH-S-A0005350144-1.pdf?src-supplier=IHS+Markit; ComponentLink1Description: https://datasheet.ciiva.com:443/pdfs/VipMasterIC/IC/ESCH/ESCH-S-A0005338377/ESCH-S-A0005350144-1.pdf?src-supplier=IHS+Markit; ComponentLink2URL: https://datasheet.ciiva.com/6470/38-ra1h1c112r-6470502.pdf?src-supplier=Digi-Key; ComponentLink2Description: https://datasheet.ciiva.com/6470/38-ra1h1c112r-6470502.pdf?src-supplier=Digi-Key; Supplier Part Number 1: EG5626-ND
footprint RA1H1C112R (Rocker Switch)
pins: 1 (power), 2 (power)

## RC0402FR-071ML
designator R?  Size Code: 0402  Resistance: 1MΩ  (hidden comment: RC0402FR-071ML)
1 MΩ, 1%, 0402 Resistor; Manufacturer: Yageo; House Part Number: R-1M-0402-1%-001; Additional Feature: LASER TRIMMABLE; Rated Power Dissipation (P): 62.5mW; Rated Temperature: 70°C; Temperature Coefficient: 100ppm/°C; Working Voltage: 50V; Package Height: 0.35mm; Package Length: 1mm; Package Width: 0.5mm; Supplier 1: Digi-Key; Manufacturer Part Number: RC0402FR-071ML; RoHS: Yes; Category: Chip SMD Resistors; Stock 1: 7104113; Pricing 1: 1=0.10000, 10=0.01500, 100=0.00600, 1000=0.00267, 2500=0.00232, 5000=0.00192 (USD); Mount: Surface Mount; Number of Pins: 2; Package Shape: Rectangular; Terminal Finish: Nickel; Min Operating Temperature: -55°C; Max Operating Temperature: 155°C; Tolerance: 1%; JESD-609 Code: e3; Resistor Type: FIXED RESISTOR; Construction: Chip; Package Style: SMTMeter; Packaging: Tape and Reel; Technology: METAL GLAZE/THICK FILM; Termination: Wraparound; Reach SVHC Compliant: Yes; RoHS Compliant: Yes; ComponentLink1URL: https://datasheet.ciiva.com:443/pdfs/VipMasterIC/IC/YAGO/YAGO-S-A0008145938/YAGO-S-A0008145938-1.pdf?src-supplier=IHS+Markit; ComponentLink1Description: https://datasheet.ciiva.com:443/pdfs/VipMasterIC/IC/YAGO/YAGO-S-A0008145938/YAGO-S-A0008145938-1.pdf?src-supplier=IHS+Markit; ComponentLink2URL: http://www.farnell.com/datasheets/1836115.pdf?src-supplier=Farnell; ComponentLink2Description: http://www.farnell.com/datasheets/1836115.pdf?src-supplier=Farnell; ComponentLink3URL: http://www.farnell.com/datasheets/2167052.pdf?src-supplier=Farnell; ComponentLink3Description: http://www.farnell.com/datasheets/2167052.pdf?src-supplier=Farnell; ComponentLink4URL: http://www.farnell.com/datasheets/2167052.pdf?src-supplier=Element14; ComponentLink4Description: http://www.farnell.com/datasheets/2167052.pdf?src-supplier=Element14; Supplier Part Number 1: 311-1.00MLRCT-ND
footprint 0402_resistor (Chip Resistor, 2-Leads, Body 1.00x0.50mm, IPC Medium Density)
pins: 1, 2

## RC0402FR-07510KL
designator R?  Case/Package: 0402  Resistance: 510kΩ  (hidden comment: RC0402FR-07510KL)
510 kΩ, 1%, 0402 Resistor; Manufacturer: Yageo; House Part Number: R-510k-0402-1%-001; Power Rating: 63mW; Voltage Rating: 50V; Temperature Coefficient: 100ppm/°C; Supplier 1: Avnet; Manufacturer Part Number: RC0402FR-07510KL; RoHS: Yes; Category: Chip SMD Resistors; Stock 1: 50000; Pricing 1: 10000=0.00085 (USD); Case Code (Imperial): 0402; Case Code (Metric): 1005; Size Code: 0402; Min Operating Temperature: -55°C; Max Operating Temperature: 155°C; Tolerance: 1%; Termination: SMD/SMT; Resistor Type: Thick Film; Number of Terminations: 2; Max Power Dissipation: 63mW; Features: Moisture Resistant; Series: RC; Construction: Rectangular; Package Quantity: 1; Voltage Rating (DC): 50V; Technology: THICK FILM; Length: 1mm; Width: 0.02inch; Height: 0.016inch; Depth: 0.5mm; RoHS Compliant: Yes; Military Standard: Not; Lead Free: Lead Free; ComponentLink1URL: https://datasheet.ciiva.com/11808/0900766b80c66297-11808810.pdf?src-supplier=RSComponents; ComponentLink1Description: https://datasheet.ciiva.com/11808/0900766b80c66297-11808810.pdf?src-supplier=RSComponents; ComponentLink2URL: https://datasheet.ciiva.com/2453/pyu-r-int-thick-7-2453464.pdf?src-supplier=Digi-Key; ComponentLink2Description: https://datasheet.ciiva.com/2453/pyu-r-int-thick-7-2453464.pdf?src-supplier=Digi-Key; ComponentLink3URL: https://datasheet.ciiva.com/2453/pyu-r-int-thick-7-2453465.pdf?src-supplier=Digi-Key; ComponentLink3Description: https://datasheet.ciiva.com/2453/pyu-r-int-thick-7-2453465.pdf?src-supplier=Digi-Key; ComponentLink4URL: https://datasheet.ciiva.com/2453/pyu-r-int-thick-7-2453463.pdf?src-supplier=Digi-Key; ComponentLink4Description: https://datasheet.ciiva.com/2453/pyu-r-int-thick-7-2453463.pdf?src-supplier=Digi-Key; ComponentLink5URL: https://datasheet.ciiva.com/17419/pyu-rc0402-51-rohs-l-6-r-17419596.pdf?src-supplier=Future+Electronics; ComponentLink5Description: https://datasheet.ciiva.com/17419/pyu-rc0402-51-rohs-l-6-r-17419596.pdf?src-supplier=Future+Electronics; Packaging: Tape and Reel; Supplier Part Number 1: RC0402FR-07510KL; Resistance Tolerance: 1%
footprint 0402_resistor (Chip Resistor, 2-Leads, Body 1.00x0.50mm, IPC Medium Density)
pins: 1, 2

## RMCF0402FT10K0
designator R?  Case Code (Imperial): 0402  Resistance: 10kΩ  (hidden comment: RMCF0402FT10K0)
10 kΩ, 0402 Chip resistor; Manufacturer: Stackpole Electronics; house_part_number: R-10k-0402-1%-001; Tolerance: 1%; Power Rating: 62.5mW; Temperature Coefficient: 100ppm/°C; Max Power Dissipation: 63mW; Supplier 1: Digi-Key; Manufacturer Part Number: RMCF0402FT10K0; RoHS: Yes; Category: Chip SMD Resistors; Stock 1: 7219214; Pricing 1: 1=0.10000, 10=0.01300, 100=0.00530, 1000=0.00239, 2500=0.00207, 5000=0.00171 (USD); Mount: Surface Mount; Case/Package: 0402; Case Code (Metric): 1005; Contact Plating: Tin,Matte; Size Code: 0402; Min Operating Temperature: -55°C; Max Operating Temperature: 155°C; Packaging: Tape and Reel; Resistor Type: Thick Film; Number of Terminations: 2; Features: Automotive AEC-Q200; Series: RMCF; Construction: Rectangular; Length: 1mm; Width: 0.02inch; Height: 0.016inch; Depth: 0.5mm; Radiation Hardening: No; Military Standard: Not; Lead Free: Lead Free; RoHS Compliant: Yes; ComponentLink1URL: https://datasheet.ciiva.com/24341/sei-rmcp-24341800.pdf?src-supplier=Onlinecomponents.com; ComponentLink1Description: https://datasheet.ciiva.com/24341/sei-rmcp-24341800.pdf?src-supplier=Onlinecomponents.com; Supplier Part Number 1: RMCF0402FT10K0CT-ND
footprint 0402_resistor (0402 chip resistor)
pins: 1, 2

## RMCF0402FT27R0
designator R?  Resistance: 27Ω  Size Code: 0402  (hidden comment: RMCF0402FT27R0)
27 Ω, 0402 Chip resistor; Manufacturer: Stackpole Electronics; house_part_number: R-27-0402-1%-001; Tolerance: 1%; Rated Power Dissipation (P): 63mW; Rated Temperature: 70°C; Temperature Coefficient: 100ppm/°C; Working Voltage: 50V; Package Height: 0.3mm; Package Length: 1mm; Package Width: 0.5mm; Reference Standard: AEC-Q200; Supplier 1: Digi-Key; Supplier Part Number 1: RMCF0402FT27R0CT-ND; RoHS: Yes; Category: Chip SMD Resistors; Stock 1: 3710; Pricing 1: 1=0.10000, 10=0.01500, 100=0.00610, 1000=0.00274, 2500=0.00238, 5000=0.00197 (USD); Mount: Surface Mount; Number of Pins: 2; Package Shape: Rectangular; Terminal Finish: Nickel; Min Operating Temperature: -55°C; Max Operating Temperature: 155°C; JESD-609 Code: e3; Resistor Type: FIXED RESISTOR; Construction: Rectangular; Package Style: SMTMeter; Packaging: Tape and Reel; Technology: METAL GLAZE/THICK FILM; Termination: Wraparound; REACH SVHC: Yes; RoHS Compliant: Yes; ComponentLink1URL: https://datasheet.ciiva.com:443/pdfs/VipMasterIC/IC/SEIE/SEIE-S-A0009541969/SEIE-S-A0009541969-1.pdf?src-supplier=IHS+Markit; ComponentLink1Description: https://datasheet.ciiva.com:443/pdfs/VipMasterIC/IC/SEIE/SEIE-S-A0009541969/SEIE-S-A0009541969-1.pdf?src-supplier=IHS+Markit; ComponentLink2URL: https://www.seielect.com/catalog/SEI-RMCF_RMCP.pdf?src-supplier=Avnet; ComponentLink2Description: https://www.seielect.com/catalog/SEI-RMCF_RMCP.pdf?src-supplier=Avnet; ComponentLink3URL: https://www.seielect.com/catalog/sei-rmcf_rmcp.pdf?src-supplier=Digi-Key; ComponentLink3Description: https://www.seielect.com/catalog/sei-rmcf_rmcp.pdf?src-supplier=Digi-Key; ComponentLink4URL: http://www.seielect.com/Catalog/SEI-RMCF_RMCP.pdf?src-supplier=Digi-Key; ComponentLink4Description: http://www.seielect.com/Catalog/SEI-RMCF_RMCP.pdf?src-supplier=Digi-Key; Manufacturer Part Number: RMCF0402FT27R0
footprint 0402_resistor (Chip Resistor, 2-Leads, Body 1.00x0.50mm, IPC Medium Density)
pins: 1, 2

## RMCF0402FT49R9
designator R?  Resistance: 49.9Ω  Case Code (Imperial): 0402  (hidden comment: RMCF0402FT49R9)
49.9 Ω, 0402 Chip resistor; Manufacturer: Stackpole Electronics; house_part_number: R-49.9-0402-1%-001; Tolerance: 1%; Power Rating: 63mW; Temperature Coefficient: 100ppm/°C; Supplier 1: Digi-Key; Supplier Part Number 1: RMCF0402FT49R9CT-ND; RoHS: Yes; Category: Chip SMD Resistors; Stock 1: 723706; Pricing 1: 1=0.10000, 10=0.01300, 100=0.00530, 1000=0.00238, 2500=0.00207, 5000=0.00171 (USD); Mount: Surface Mount; Case Code (Metric): 1005; Contact Plating: Tin,Matte; Size Code: 0402; Min Operating Temperature: -55°C; Max Operating Temperature: 155°C; Packaging: Tape and Reel; Resistor Type: Thick Film; Number of Terminations: 2; Max Power Dissipation: 63mW; Features: Automotive AEC-Q200; Series: RMCF; Construction: Rectangular; Length: 1mm; Width: 0.02inch; Height: 0.016inch; Depth: 0.5mm; Radiation Hardening: No; Military Standard: Not; Lead Free: Lead Free; RoHS Compliant: Yes; ComponentLink1URL: http://components.arrow.com/part/dataview/44987983S6966749N1174?src-supplier=Arrow+Electronics; ComponentLink1Description: http://components.arrow.com/part/dataview/44987983S6966749N1174?src-supplier=Arrow+Electronics; ComponentLink2URL: https://www.verical.com/server-webapp/html/getDatasheet?partID=362596&src-supplier=Verical; ComponentLink2Description: https://www.verical.com/server-webapp/html/getDatasheet?partID=362596&src-supplier=Verical; ComponentLink3URL: http://www.seielect.com/Catalog/SEI-RMCF_RMCP.pdf?src-supplier=Future+Electronics; ComponentLink3Description: http://www.seielect.com/Catalog/SEI-RMCF_RMCP.pdf?src-supplier=Future+Electronics; ComponentLink4URL: https://www.seielect.com/catalog/SEI-RMCF_RMCP.pdf?src-supplier=Avnet; ComponentLink4Description: https://www.seielect.com/catalog/SEI-RMCF_RMCP.pdf?src-supplier=Avnet; ComponentLink5URL: https://www.seielect.com/Catalog/SEI-RMCF_RMCP.pdf?src-supplier=Digi-Key; ComponentLink5Description: https://www.seielect.com/Catalog/SEI-RMCF_RMCP.pdf?src-supplier=Digi-Key; Manufacturer Part Number: RMCF0402FT49R9; Case/Package: 0402
footprint 0402_resistor (0402 chip resistor)
pins: 1, 2

## RMCF0402FT100K0
designator R?  Case Code (Imperial): 0402  Resistance: 100kΩ  (hidden comment: RMCF0402FT100K0)
100 kΩ, 0402 Chip resistor; Manufacturer: Stackpole Electronics; Manufacturer Part Number: RMCF0402FT10K0; house_part_number: R-100k-0402-1%-001; Tolerance: 1%; Power Rating: 62.5mW; Temperature Coefficient: 100ppm/°C; Max Power Dissipation: 63mW; Supplier 1: Digi-Key; RoHS: Yes; Category: Chip SMD Resistors; Stock 1: 7219214; Pricing 1: 1=0.10000, 10=0.01300, 100=0.00530, 1000=0.00239, 2500=0.00207, 5000=0.00171 (USD); Mount: Surface Mount; Case/Package: 0402; Case Code (Metric): 1005; Contact Plating: Tin,Matte; Size Code: 0402; Min Operating Temperature: -55°C; Max Operating Temperature: 155°C; Packaging: Tape and Reel; Resistor Type: Thick Film; Number of Terminations: 2; Features: Automotive AEC-Q200; Series: RMCF; Construction: Rectangular; Length: 1mm; Width: 0.02inch; Height: 0.016inch; Depth: 0.5mm; Radiation Hardening: No; Military Standard: Not; Lead Free: Lead Free; RoHS Compliant: Yes; ComponentLink1URL: https://datasheet.ciiva.com/24341/sei-rmcp-24341800.pdf?src-supplier=Onlinecomponents.com; ComponentLink1Description: https://datasheet.ciiva.com/24341/sei-rmcp-24341800.pdf?src-supplier=Onlinecomponents.com; Supplier Part Number 1: RMCF0402FT10K0CT-ND
footprint 0402_resistor (0402 chip resistor)
pins: 1, 2

## RMCF0402FT100R
designator R?  Case Code (Imperial): 0402  Resistance: 100Ω  (hidden comment: RMCF0402FT100R)
100 Ω, 0402 Chip resistor; Manufacturer: Stackpole Electronics; house_part_number: R-100-0402-1%-001; Power Rating: 62.5mW; Tolerance: 1%; Max Power Dissipation: 63mW; Temperature Coefficient: 100ppm/°C; Supplier 1: Digi-Key; Supplier Part Number 1: RMCF0402FT100RCT-ND; RoHS: Yes; Category: Chip SMD Resistors; Stock 1: 188482; Pricing 1: 1=0.10000, 10=0.01300, 100=0.00530, 1000=0.00238, 2500=0.00207, 5000=0.00171 (USD); Mount: Surface Mount; Case/Package: 0402; Case Code (Metric): 1005; Contact Plating: Tin,Matte; Min Operating Temperature: -55°C; Max Operating Temperature: 155°C; Packaging: Tape and Reel; Resistor Type: Thick Film; Number of Terminations: 2; Features: Automotive AEC-Q200; Series: RMCF; Construction: Rectangular; Length: 1mm; Width: 0.02inch; Height: 0.016inch; Depth: 0.5mm; Military Standard: Not; Lead Free: Lead Free; RoHS Compliant: Yes; ComponentLink1URL: http://components.arrow.com/part/dataview/50497758S7215546N1174?src-supplier=Arrow+Electronics; ComponentLink1Description: http://components.arrow.com/part/dataview/50497758S7215546N1174?src-supplier=Arrow+Electronics; ComponentLink2URL: https://www.seielect.com/catalog/sei-rmcf_rmcp.pdf?src-supplier=Digi-Key; ComponentLink2Description: https://www.seielect.com/catalog/sei-rmcf_rmcp.pdf?src-supplier=Digi-Key; ComponentLink3URL: https://www.seielect.com/Catalog/SEI-RMCF_RMCP.pdf?src-supplier=Avnet; ComponentLink3Description: https://www.seielect.com/Catalog/SEI-RMCF_RMCP.pdf?src-supplier=Avnet; ComponentLink4URL: https://www.verical.com/server-webapp/html/getDatasheet?partID=368652&src-supplier=Verical; ComponentLink4Description: https://www.verical.com/server-webapp/html/getDatasheet?partID=368652&src-supplier=Verical; ComponentLink5URL: https://www.seielect.com/Catalog/SEI-RMCF_RMCP.pdf?src-supplier=Avnet+Asia; ComponentLink5Description: https://www.seielect.com/Catalog/SEI-RMCF_RMCP.pdf?src-supplier=Avnet+Asia; Manufacturer Part Number: RMCF0402FT100R
footprint 0402_resistor (0402 chip resistor)
pins: 1, 2